# Altium schematic symbol library LM5101A.SchLib: 1 symbol
Pins are listed as number, name and electrical type; pins without a type are passive.

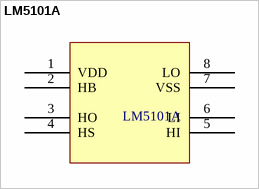
[diagram p0: symbol LM5101A]

## LM5101A
designator LM5101A
footprint LM5101A
pins: 1 VDD, 2 HB, 3 HO, 4 HS, 5 HI, 6 LI, 7 VSS, 8 LO